# Altium schematic symbol library XT90PW-F.SchLib: 1 symbol
Pins are listed as number, name and electrical type; pins without a type are passive.

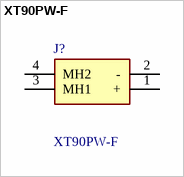
[diagram p0: symbol XT90PW-F]

## XT90PW-F
designator J?
Connector: DC supply; socket; female; XT90; 40A; 500V; PIN: 2; THT; Manufacturer_Name: Amass; Geometry.Height: 10.3mm; TME Electronic Components Part Number: *; TME Electronic Components Price/Stock: *; Manufacturer_Part_Number: XT90PW-F; Datasheet Link: https://www.tme.eu/Document/7357a049cc8e5ea73e34d2124a313a81/XT90PW.pdf
footprint XT90PWF
pins: 1 +, 2 -, 3 MH1, 4 MH2